# Altium integrated library Sensor - Motion.IntLib: 4 symbols
Pins are listed as number, name and electrical type; pins without a type are passive.

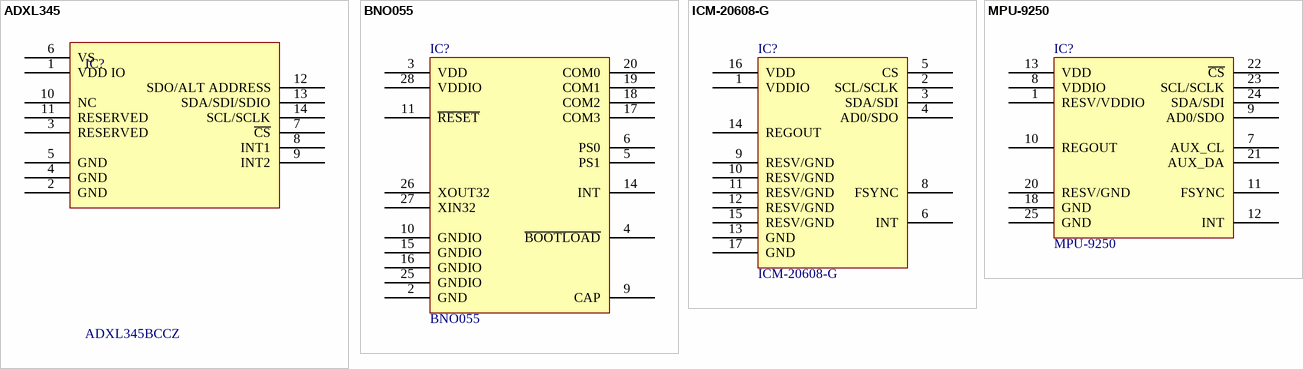
[diagram p0: symbols ADXL345 to MPU-9250]

## ADXL345
designator IC?, comment ADXL345BCCZ
9 AXIS ACCELERATOR SENSOR; Manufacturer: Analog Device; Sensor Type: Accelerometer, 3 Axis; Output Type: IC; Part Number: ADXL345BCCZ; Supplier 1: Digi-Key; Supplier Part Number 1: ADXL345BCCZ-RLCT-ND; ComponentLink1Description: Datasheet; ComponentLink1URL: https://www.analog.com/media/en/technical-documentation/data-sheets/adxl345.pdf; ComponentLink2Description: Digi-Key Listing; ComponentLink2URL: https://www.digikey.my/product-detail/en/analog-devices-inc/ADXL345BCCZ-RL/ADXL345BCCZ-RLCT-ND/2237841; Price: 8.25; Type: Accelerator; Series: -; Operating Temperature: -40C ~ 85C (TA)
footprint ANALOG LGA14
pins: 1 VDD IO, 2 GND, 3 RESERVED, 4 GND, 5 GND, 6 VS, 7 ~{CS}, 8 INT1, 9 INT2, 10 NC, 11 RESERVED, 12 SDO/ALT ADDRESS, 13 SDA/SDI/SDIO, 14 SCL/SCLK

## BNO055
designator IC?
9 AXIS ORIENTATION SENSOR; Manufacturer: Bosch Sensortec; Sensor Type: Accelerometer, Gyroscope, Magnetometer, 3 Axis; Output Type: IC; Part Number: BNO055; PartId: 16469; Supplier 1: Digi-Key; Supplier Part Number 1: 828-1058-2-ND; ComponentLink1Description: Datasheet; ComponentLink1URL: https://ae-bst.resource.bosch.com/media/_tech/media/others/BST_Produktuebersicht_SCREEN_Final.pdf; ComponentLink2Description: Digi-Key Listing; ComponentLink2URL: http://www.digikey.com/product-detail/en/bosch-sensortec/BNO055/828-1058-2-ND/6136301; Price: 6.325; Type: Multifunction; Series: -; Operating Temperature: -40C ~ 85C (TA)
footprint BOSCH LGA-28 5.2x3.8MM
pins: 2 GND, 3 VDD, 4 ~{BOOTL}~{OAD}, 5 PS1, 6 PS0, 9 CAP, 10 GNDIO, 11 ~{RESET}, 14 INT, 15 GNDIO, 16 GNDIO, 17 COM3, 18 COM2, 19 COM1, 20 COM0, 25 GNDIO, 26 XOUT32, 27 XIN32, 28 VDDIO

## ICM-20608-G
designator IC?
GYRO/ACCELEROMETER 6AXIS 16LGA; Manufacturer: InvenSense; Sensor Type: Accelerometer, Gyroscope, 3 Axis; Output Type: IC, SPI; Part Number: ICM-20608-G; PartId: 16183; Supplier 1: Digi-Key; Supplier Part Number 1: 1428-1052-1-ND; ComponentLink1Description: Datasheet; ComponentLink1URL: http://43zrtwysvxb2gf29r5o0athu.wpengine.netdna-cdn.com/wp-content/uploads/2015/03/DS-000081-v1.01.pdf; ComponentLink2Description: Digi-Key Listing; ComponentLink2URL: http://www.digikey.com/product-detail/en/invensense/ICM-20608-G/1428-1052-1-ND/5177387; Price: 7.31; Type: Multifunction; Series: -; Operating Temperature: -40C ~ 85C (TA)
footprint INVENSENSE LGA-16 3x3
pins: 1 VDDIO, 2 SCL/SCLK, 3 SDA/SDI, 4 AD0/SDO, 5 CS, 6 INT, 8 FSYNC, 9 RESV/GND, 10 RESV/GND, 11 RESV/GND, 12 RESV/GND, 13 GND, 14 REGOUT, 15 RESV/GND, 16 VDD, 17 GND

## MPU-9250
designator IC?
GYRO/ACCEL/COMPASS/9-AXIS; Manufacturer: InvenSense; Sensor Type: Accelerometer, Gyroscope, Magnetometer, 3 Axis; Output Type: IC, SPI; Part Number: MPU-9250; PartId: 16182; Supplier 1: Digi-Key; Supplier Part Number 1: 1428-1019-1-ND; ComponentLink1Description: Datasheet; ComponentLink1URL: http://store.invensense.com/datasheets/invensense/MPU9250REV1.0.pdf; ComponentLink2Description: Digi-Key Listing; ComponentLink2URL: http://www.digikey.ca/product-detail/en/invensense/MPU-9250/1428-1019-1-ND/4626450; Price: 14.53; Type: Multifunction; Series: MotionTracking; Operating Temperature: -40C ~ 85C (TA)
footprint INVENSENSE QFN-24 3x3mm
pins: 1 RESV/VDDIO, 7 AUX_CL, 8 VDDIO, 9 AD0/SDO, 10 REGOUT, 11 FSYNC, 12 INT, 13 VDD, 18 GND, 20 RESV/GND, 21 AUX_DA, 22 ~{CS}, 23 SCL/SCLK, 24 SDA/SDI, 25 GND